# Altium schematic symbol library SPM6530T-R68M.Schlib: 1 symbol
Pins are listed as number, name and electrical type; pins without a type are passive.

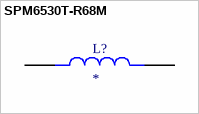
[diagram p0: symbol SPM6530T-R68M]

## SPM6530T-R68M
designator L?
pins: 1, 2